# Altium schematic symbol library Schlib1.SchLib: 2 symbols
Pins are listed as number, name and electrical type; pins without a type are passive.

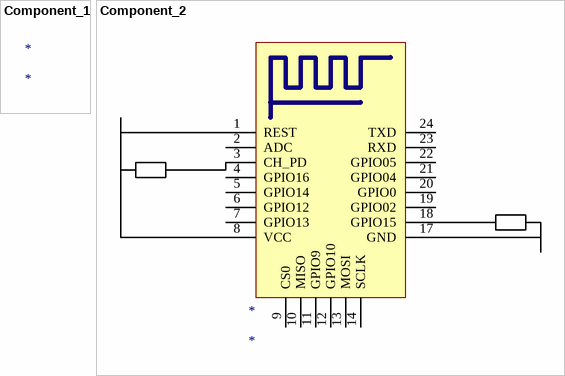
[diagram p0: symbols Component_1 to Component_2]

## Component_1
designator *

## Component_2
designator *
pins: 1 REST (power), 2 ADC (power), 3 CH_PD (power), 4 GPIO16 (power), 5 GPIO14 (power), 6 GPIO12 (power), 7 GPIO13 (power), 8 VCC (power), 9 CS0 (power), 10 MISO (power), 11 GPIO9 (power), 12 GPIO10 (power), 13 MOSI (power), 14 SCLK (power), 16 (power) hidden, 17 GND (power), 18 GPIO15 (power), 19 GPIO02 (power), 20 GPIO0 (power), 21 GPIO04 (power), 22 GPIO05 (power), 23 RXD (power), 24 TXD (power), 25 VCC (power) hidden, 26 GND (power) hidden
text: 1K